# Altium schematic symbol library WE-AGDA.SchLib: 7 symbols
Pins are listed as number, name and electrical type; pins without a type are passive.

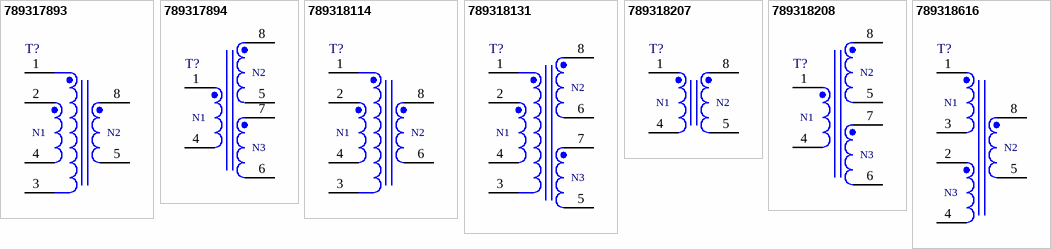
[diagram p0: symbols 789317893 to 789318616]

## 789317893
designator T?, comment Ui = 9-18V, Uo = 19V  (value not drawn)
WE-AGDA Auxiliary Gate Drive Transformer Automotive, SMT, size EP7, Ui = 9-18V, Uo = 19V, PO = 3W, fwitch = 350kHz; Manufacturer Part Number: 789317893; Manufacturer: Wurth Elektronik; Inductance: 18uH; Interwinding Capacitance: 6.8pF; Saturation Current: 1.95A; Turns Ratio: 1:2; Category: Gate Drive Transformers; Match Code: WE-AGDA; ComponentLink1Description: Website Link; ComponentLink1URL: https://www.we-online.com; ComponentLink2Description: Datasheet Link; ComponentLink2URL: https://www.we-online.com/components/products/datasheet/789317893; Mount: Surface Mount; Operating Temperature Min: -40degC; Operating Temperature Max: 30degC; Packaging: Tape and Reel; Case/Size Code: EP7; Automotive: Yes; Input Voltage: 9-18V; Output Power: 3W; Output Voltage: 19V; Switching Frequency: 350kHz
footprint WE-AGDA_EP7
pins: 1, 2, 3, 4, 5, 8
text: N1; N2

## 789317894
designator T?, comment Ui = 9-18V, Uo1 = 15V, Uo2 = -4V  (value not drawn)
WE-AGDA Auxiliary Gate Drive Transformer Automotive, SMT, size EP7, Ui = 9-18V, Uo1 = 15V, Uo2 = -4V, PO = 3W, fwitch = 350kHz; Manufacturer Part Number: 789317894; Manufacturer: Wurth Elektronik; Inductance: 18uH; Interwinding Capacitance: 7pF; Saturation Current: 1.6A; Turns Ratio: 2.25:3.5:1; Category: Gate Drive Transformers; Match Code: WE-AGDA; ComponentLink1Description: Website Link; ComponentLink1URL: https://www.we-online.com; ComponentLink2Description: Datasheet Link; ComponentLink2URL: https://www.we-online.com/components/products/datasheet/789317894; Mount: Surface Mount; Operating Temperature Min: -40degC; Operating Temperature Max: 30degC; Packaging: Tape and Reel; Case/Size Code: EP7; Automotive: Yes; Input Voltage: 9-18V; Output Power: 3W; Output Voltage: 15V; Output Voltage 2: -4V; Switching Frequency: 350kHz
footprint WE-AGDA_EP7
pins: 1, 4, 5, 6, 7, 8
text: N2; N1; N3

## 789318114
designator T?, comment Ui = 9-18V, Uo = 19V  (value not drawn)
WE-AGDA Auxiliary Gate Drive Transformer Automotive, SMT, size EP7, Ui = 9-18V, Uo = 19V, PO = 6W, fwitch = 350kHz; Manufacturer Part Number: 789318114; Manufacturer: Wurth Elektronik; Inductance: 6uH; Interwinding Capacitance: 6.8pF; Saturation Current: 6.2A; Turns Ratio: 1:2; Category: Gate Drive Transformers; Match Code: WE-AGDA; ComponentLink1Description: Website Link; ComponentLink1URL: https://www.we-online.com; ComponentLink2Description: Datasheet Link; ComponentLink2URL: https://www.we-online.com/components/products/datasheet/789318114; Mount: Surface Mount; Operating Temperature Min: -40degC; Operating Temperature Max: 30degC; Packaging: Tape and Reel; Case/Size Code: EP7; Automotive: Yes; Input Voltage: 9-18V; Output Power: 6W; Output Voltage: 19V; Switching Frequency: 350kHz
footprint WE-AGDA_EP7
pins: 1, 2, 3, 4, 6, 8
text: N1; N2

## 789318131
designator T?, comment Ui = 9-18V, Uo1 = 15V, Uo2 = -4V  (value not drawn)
WE-AGDA Auxiliary Gate Drive Transformer Automotive, SMT, size EP7, Ui = 9-18V, Uo1 = 15V, Uo2 = -4V, PO = 6W, fwitch = 350kHz; Manufacturer Part Number: 789318131; Manufacturer: Wurth Elektronik; Inductance: 7uH; Interwinding Capacitance: 7.5pF; Saturation Current: 5A; Turns Ratio: 2.25:3.5:1; Category: Gate Drive Transformers; Match Code: WE-AGDA; ComponentLink1Description: Website Link; ComponentLink1URL: https://www.we-online.com; ComponentLink2Description: Datasheet Link; ComponentLink2URL: https://www.we-online.com/components/products/datasheet/789318131; Mount: Surface Mount; Operating Temperature Min: -40degC; Operating Temperature Max: 30degC; Packaging: Tape and Reel; Case/Size Code: EP7; Automotive: Yes; Input Voltage: 9-18V; Output Power: 6W; Output Voltage: 15V; Output Voltage 2: -4V; Switching Frequency: 350kHz
footprint WE-AGDA_EP7
pins: 1, 2, 3, 4, 5, 6, 7, 8
text: N2; N1; N3

## 789318207
designator T?, comment Ui = 18-36V, Uo = 19V  (value not drawn)
WE-AGDA Auxiliary Gate Drive Transformer Automotive, SMT, size EP7, Ui = 18-36V, Uo = 19V, PO = 5W, fwitch = 350kHz; Manufacturer Part Number: 789318207; Manufacturer: Wurth Elektronik; Inductance: 27uH; Interwinding Capacitance: 8.2pF; Saturation Current: 2A; Turns Ratio: 1:1.2; Category: Gate Drive Transformers; Match Code: WE-AGDA; ComponentLink1Description: Website Link; ComponentLink1URL: https://www.we-online.com; ComponentLink2Description: Datasheet Link; ComponentLink2URL: https://www.we-online.com/components/products/datasheet/789318207; Mount: Surface Mount; Operating Temperature Min: -40degC; Operating Temperature Max: 30degC; Packaging: Tape and Reel; Case/Size Code: EP7; Automotive: Yes; Input Voltage: 18-36V; Output Power: 5W; Output Voltage: 19V; Switching Frequency: 350kHz
footprint WE-AGDA_EP7
pins: 1, 4, 5, 8
text: N1; N2

## 789318208
designator T?, comment Ui = 18-36V, Uo1 = 15V, Uo2 = -4V  (value not drawn)
WE-AGDA Auxiliary Gate Drive Transformer Automotive, SMT, size EP7, Ui = 18-36V, Uo1 = 15V, Uo2 = -4V, PO = 5W, fwitch = 350kHz; Manufacturer Part Number: 789318208; Manufacturer: Wurth Elektronik; Inductance: 27uH; Interwinding Capacitance: 7pF; Saturation Current: 1.5A; Turns Ratio: 3.5:3.5:1; Category: Gate Drive Transformers; Match Code: WE-AGDA; ComponentLink1Description: Website Link; ComponentLink1URL: https://www.we-online.com; ComponentLink2Description: Datasheet Link; ComponentLink2URL: https://www.we-online.com/components/products/datasheet/789318208; Mount: Surface Mount; Operating Temperature Min: -40degC; Operating Temperature Max: 30degC; Packaging: Tape and Reel; Case/Size Code: EP7; Automotive: Yes; Input Voltage: 18-36V; Output Power: 5W; Output Voltage: 15V; Output Voltage 2: -4V; Switching Frequency: 350kHz
footprint WE-AGDA_EP7
pins: 1, 4, 5, 6, 7, 8
text: N2; N1; N3

## 789318616
designator T?, comment Ui = 7-31V, Uo = 27V  (value not drawn)
WE-AGDA Auxiliary Gate Drive Transformer Automotive, SMT, size EP7, Ui = 7-31V, Uo = 27V, PO = 2.7W, fwitch = 400kHz; Manufacturer Part Number: 789318616; Manufacturer: Wurth Elektronik; Inductance: 10uH; Interwinding Capacitance: 3.25pF; Saturation Current: 1.85A; Turns Ratio: 1.2:2:1; Auxiliary Voltage: 13V; Category: Gate Drive Transformers; Match Code: WE-AGDA; ComponentLink1Description: Website Link; ComponentLink1URL: https://www.we-online.com; ComponentLink2Description: Datasheet Link; ComponentLink2URL: https://www.we-online.com/components/products/datasheet/789318616; Mount: Surface Mount; Operating Temperature Min: -40degC; Operating Temperature Max: 30degC; Packaging: Tape and Reel; Case/Size Code: EP7; Automotive: Yes; Input Voltage: 7-31V; Output Power: 2.7W; Output Voltage: 27V; Switching Frequency: 400kHz
footprint WE-AGDA_EP7
pins: 1, 2, 3, 4, 5, 8
text: N1; N2; N3